# EAGLE library part DSPIC30F2011 (library @Club_Microchip_divers-)
dsPIC Sensor DSC
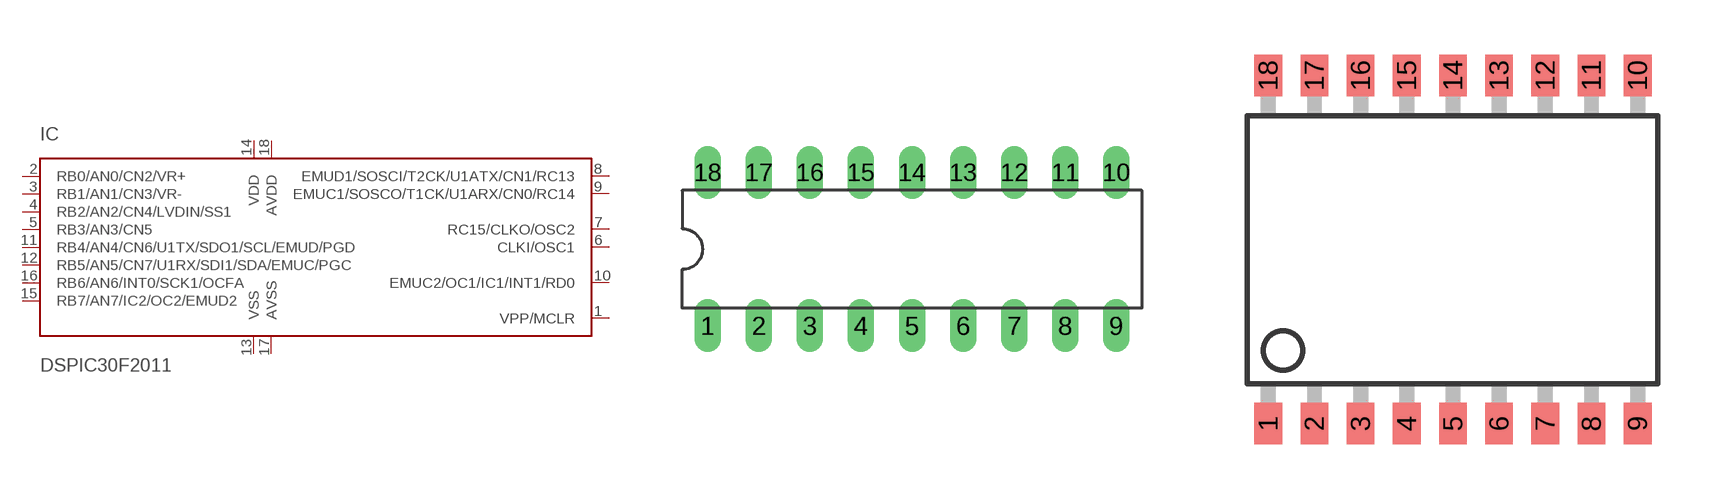
[diagram p17: symbol with the pads of DIL18; footprints DIL18, SO-18W]

Designator prefix IC

## DSPIC30F2011/P  [DIL18]
1  VPP/MCLR  in
2  RB0/AN0/CN2/VR+
3  RB1/AN1/CN3/VR-
4  RB2/AN2/CN4/LVDIN/SS1
5  RB3/AN3/CN5
6  CLKI/OSC1
7  RC15/CLKO/OSC2
8  EMUD1/SOSCI/T2CK/U1ATX/CN1/RC13
9  EMUC1/SOSCO/T1CK/U1ARX/CN0/RC14
10  EMUC2/OC1/IC1/INT1/RD0
11  RB4/AN4/CN6/U1TX/SDO1/SCL/EMUD/PGD
12  RB5/AN5/CN7/U1RX/SDI1/SDA/EMUC/PGC
13  VSS  pwr
14  VDD  pwr
15  RB7/AN7/IC2/OC2/EMUD2
16  RB6/AN6/INT0/SCK1/OCFA
17  AVSS  pwr
18  AVDD  pwr

## DSPIC30F2011/SO  [SO-18W]
Pads as for DIL18

## DSPIC30F2011/ML  [QFN-S28-6X6]
1  RB2/AN2/CN4/LVDIN/SS1
2  RB3/AN3/CN5
5  VSS  pwr
6  CLKI/OSC1
7  RC15/CLKO/OSC2
8  EMUD1/SOSCI/T2CK/U1ATX/CN1/RC13
9  EMUC1/SOSCO/T1CK/U1ARX/CN0/RC14
10  VDD  pwr
12  EMUC2/OC1/IC1/INT1/RD0
14  RB4/AN4/CN6/U1TX/SDO1/SCL/EMUD/PGD
15  RB5/AN5/CN7/U1RX/SDI1/SDA/EMUC/PGC
22  RB7/AN7/IC2/OC2/EMUD2
23  RB6/AN6/INT0/SCK1/OCFA
24  AVSS  pwr
25  AVDD  pwr
26  VPP/MCLR  in
27  RB0/AN0/CN2/VR+
28  RB1/AN1/CN3/VR-

## Footprint DIL18 (pad centres in mm)
Dual In Line Package
drill 0.813 long: 1 -10.16,-3.81; 2 -7.62,-3.81; 3 -5.08,-3.81; 4 -2.54,-3.81; 5 0,-3.81; 6 2.54,-3.81; 7 5.08,-3.81; 8 7.62,-3.81; 9 10.16,-3.81; 10 10.16,3.81; 11 7.62,3.81; 12 5.08,3.81; 13 2.54,3.81; 14 0,3.81; 15 -2.54,3.81; 16 -5.08,3.81; 17 -7.62,3.81; 18 -10.16,3.81

## Footprint SO-18W (pad centres in mm)
Small Outline Wide Plastic Gull Wing 300-mil body, package type SO
smd 0.762 x 1.143: 1 -5.08,-4.788; 2 -3.81,-4.788; 3 -2.54,-4.788; 4 -1.27,-4.788; 5 0,-4.788; 6 1.27,-4.788; 7 2.54,-4.788; 8 3.81,-4.788; 9 5.08,-4.788; 10 5.08,4.788; 11 3.81,4.788; 12 2.54,4.788; 13 1.27,4.788; 14 0,4.788; 15 -1.27,4.788; 16 -2.54,4.788; 17 -3.81,4.788; 18 -5.08,4.788

## Footprint QFN-S28-6X6 (pad centres in mm)
Quad Flat No Lead
smd 0.6 x 0.4: 1 2.75,-1.95; 2 2.75,-1.3; 3 2.75,-0.65; 4 2.75,0; 5 2.75,0.65; 6 2.75,1.3; 7 2.75,1.95; 15 -2.75,1.95; 16 -2.75,1.3; 17 -2.75,0.65; 18 -2.75,0; 19 -2.75,-0.65; 20 -2.75,-1.3; 21 -2.75,-1.95
smd 0.4 x 0.6: 8 1.95,2.75; 9 1.3,2.75; 10 0.65,2.75; 11 0,2.75; 12 -0.65,2.75; 13 -1.3,2.75; 14 -1.95,2.75; 22 -1.95,-2.75; 23 -1.3,-2.75; 24 -0.65,-2.75; 25 0,-2.75; 26 0.65,-2.75; 27 1.3,-2.75; 28 1.95,-2.75